# EAGLE library part STEPSTICK (library we-board)
SilentStepStick Trinamic TMC2xxx Stepper Motor Driver TMC2100 - CFG pins for configuration TMC2130 - CFG pins and SPI for configuration TMC220x - CFG pins and UART for configuration
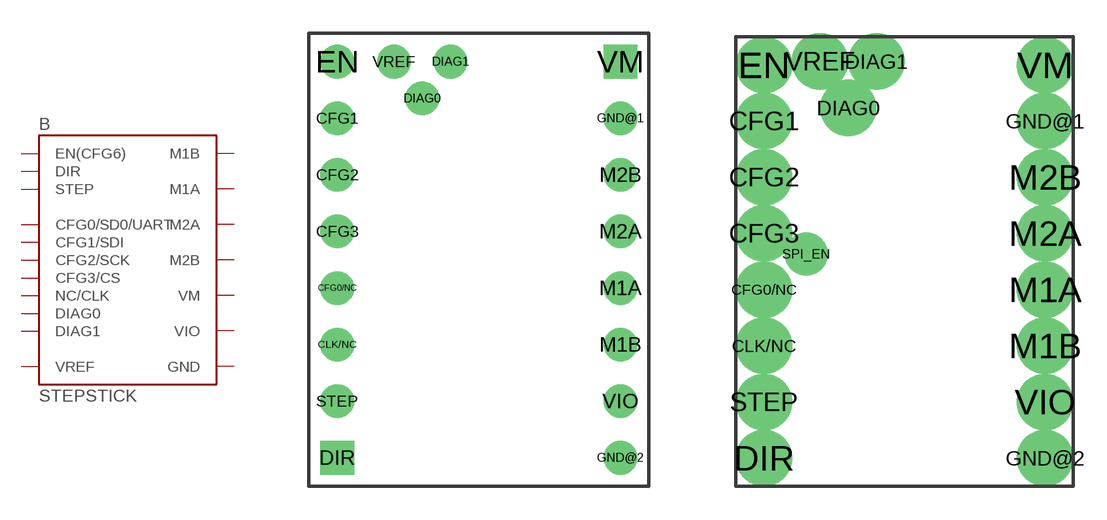
[diagram p11: symbol with the pads of SSS_TP; footprints SSS_TP, SSS_TEST]

Designator prefix B

## STEPSTICK-TP  [SSS_TP]
CFG0/NC  CFG0/SD0/UART
CFG1  CFG1/SDI
CFG2  CFG2/SCK
CFG3  CFG3/CS
CLK/NC  NC/CLK
DIAG0  DIAG0
DIAG1  DIAG1
DIR  DIR  in
EN  EN(CFG6)
GND@1  GND  pwr
GND@2  GND  pwr
M1A  M1A  out
M1B  M1B  out
M2A  M2A  out
M2B  M2B  out
STEP  STEP  in
VIO  VIO  pwr
VM  VM  pwr
VREF  VREF  pas

## STEPSTICK-TEST  [SSS_TEST]
Pads as for SSS_TP

## Footprint SSS_TP (pad centres in mm)
21 tPlace (DIAG0+VREF swapped on v2)
drill 1: CFG0/NC -6.35,-1.27; CFG1 -6.35,6.35; CFG2 -6.35,3.81; CFG3 -6.35,1.27; CLK/NC -6.35,-3.81; DIAG0 -2.54,7.239; DIAG1 -1.27,8.89; EN -6.35,8.89; GND@1 6.35,6.35; GND@2 6.35,-8.89; M1A 6.35,-1.27; M1B 6.35,-3.81; M2A 6.35,1.27; M2B 6.35,3.81; STEP -6.35,-6.35; VIO 6.35,-6.35; VREF -3.81,8.89
drill 1 square: DIR -6.35,-8.89; VM 6.35,8.89

## Footprint SSS_TEST (pad centres in mm)
Test Pins v1 (DIAG0+VREF swapped on v2)
drill 1.7 pad 2.2: CFG0/NC -6.35,-1.27; CFG1 -6.35,6.35; CFG2 -6.35,3.81; CFG3 -6.35,1.27; CLK/NC -6.35,-3.81; DIR -6.35,-8.89; EN -6.35,8.89; GND@1 6.35,6.35; GND@2 6.35,-8.89; M1A 6.35,-1.27; M1B 6.35,-3.81; M2A 6.35,1.27; M2B 6.35,3.81; STEP -6.35,-6.35; VIO 6.35,-6.35; VM 6.35,8.89
drill 1.7 pad 2.1: DIAG0 -2.54,6.95; DIAG1 -1.27,9.05; VREF -3.81,9.05
drill 1.3 pad 1.6: SPI_EN -4.445,0.346